# Altium schematic symbol library CR-10 Motherboard.SCHLIB: 23 symbols
Pins are listed as number, name and electrical type; pins without a type are passive.

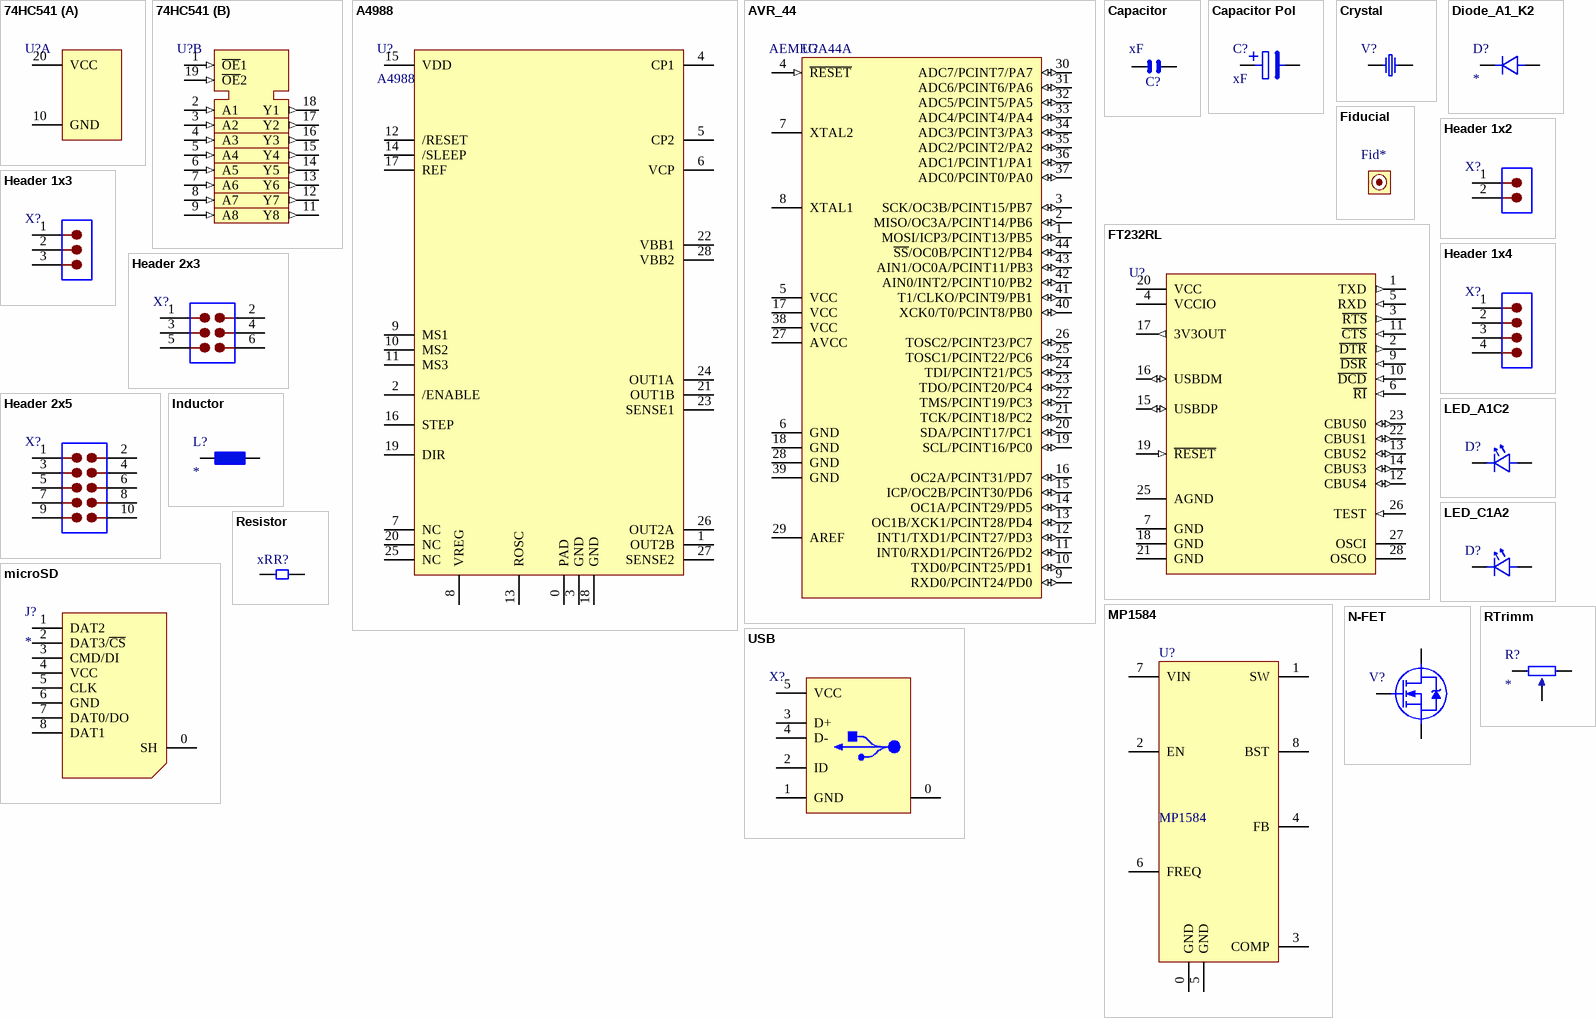
[diagram p0: symbols 74HC541 to USB]

## 74HC541
designator U?, comment HC541  (value not drawn)
74HC541 - Octal buffer/line driver
footprint SSOP-20
part A pins: 10 GND (power), 20 VCC (power)
part B pins: 1 ~{OE}1 (in), 2 A1 (in), 3 A2 (in), 4 A3 (in), 5 A4 (in), 6 A5 (in), 7 A6 (in), 8 A7 (in), 9 A8 (in), 11 Y8 (out), 12 Y7 (out), 13 Y6 (out), 14 Y5 (out), 15 Y4 (out), 16 Y3 (out), 17 Y2 (out), 18 Y1 (out), 19 ~{OE}2 (in)

## A4988
designator U?
footprint QFP28
pins: 0 PAD, 1 OUT2B, 2 /ENABLE, 3 GND, 4 CP1, 5 CP2, 6 VCP, 7 NC, 8 VREG, 9 MS1, 10 MS2, 11 MS3, 12 /RESET, 13 ROSC, 14 /SLEEP, 15 VDD, 16 STEP, 17 REF, 18 GND, 19 DIR, 20 NC, 21 OUT1B, 22 VBB1, 23 SENSE1, 24 OUT1A, 25 NC, 26 OUT2A, 27 SENSE2, 28 VBB2

## AVR_44
designator U?, comment AEMEGA44A
AVR, 128k FLASH, TQFP44; Part Number: ATmega1284P-AU; PackageDescription: TQFP44
footprint QFP-44
pins: 1 MOSI/ICP3/PCINT13/PB5 (io), 2 MISO/OC3A/PCINT14/PB6 (io), 3 SCK/OC3B/PCINT15/PB7 (io), 4 ~{RESET} (in), 5 VCC (power), 6 GND (power), 7 XTAL2, 8 XTAL1, 9 RXD0/PCINT24/PD0 (io), 10 TXD0/PCINT25/PD1 (io), 11 INT0/RXD1/PCINT26/PD2 (io), 12 INT1/TXD1/PCINT27/PD3 (io), 13 OC1B/XCK1/PCINT28/PD4 (io), 14 OC1A/PCINT29/PD5 (io), 15 ICP/OC2B/PCINT30/PD6 (io), 16 OC2A/PCINT31/PD7 (io), 17 VCC (power), 18 GND (power), 19 SCL/PCINT16/PC0 (io), 20 SDA/PCINT17/PC1 (io), 21 TCK/PCINT18/PC2 (io), 22 TMS/PCINT19/PC3 (io), 23 TDO/PCINT20/PC4 (io), 24 TDI/PCINT21/PC5 (io), 25 TOSC1/PCINT22/PC6 (io), 26 TOSC2/PCINT23/PC7 (io), 27 AVCC (power), 28 GND (power), 29 AREF, 30 ADC7/PCINT7/PA7 (io), 31 ADC6/PCINT6/PA6 (io), 32 ADC5/PCINT5/PA5 (io), 33 ADC4/PCINT4/PA4 (io), 34 ADC3/PCINT3/PA3 (io), 35 ADC2/PCINT2/PA2 (io), 36 ADC1/PCINT1/PA1 (io), 37 ADC0/PCINT0/PA0 (io), 38 VCC (power), 39 GND (power), 40 XCK0/T0/PCINT8/PB0 (io), 41 T1/CLKO/PCINT9/PB1 (io), 42 AIN0/INT2/PCINT10/PB2 (io), 43 AIN1/OC0A/PCINT11/PB3 (io), 44 ~{SS}/OC0B/PCINT12/PB4 (io)

## Capacitor
designator C?, comment xF
Chip Capacitor
footprint 0805
footprint 0603
footprint C0603
pins: 1, 2

## Capacitor Pol
designator C?, comment xF
Capacitor Polarized
footprint CAP-100
footprint RVT4X5.5 (22uF  35V)
pins: 1, 2
1 alternate drawing of the same symbol

## Crystal
designator V?  (value not drawn)
footprint CRY
pins: 1, 2

## Diode_A1_K2
designator D?
Diode
footprint D-SMA
pins: 1, 2

## Fiducial
designator Fid*  (value not drawn)  (no BOM)
Fiducial
footprint Fiducial-A

## FT232RL
designator U?  (value not drawn)
FTDI USB UART I.C.
footprint PL2303
pins: 1 TXD (out), 2 ~{DTR} (out), 3 ~{RTS} (out), 4 VCCIO (power), 5 RXD (in), 6 ~{RI} (in), 7 GND (power), 9 ~{DSR} (in), 10 ~{DCD} (in), 11 ~{CTS} (in), 12 CBUS4 (io), 13 CBUS2 (io), 14 CBUS3 (io), 15 USBDP (io), 16 USBDM (io), 17 3V3OUT (out), 18 GND (power), 19 ~{RESET} (in), 20 VCC (power), 21 GND (power), 22 CBUS1 (io), 23 CBUS0 (io), 25 AGND (power), 26 TEST (in), 27 OSCI (power), 28 OSCO (power)

## Header 1x2
designator X?
Header 1x2
footprint P2
footprint MOT-2
pins: 1, 2

## Header 1x3
designator X?
Header 1x3
footprint XH-3A
pins: 1, 2, 3

## Header 1x4
designator X?
Header 1x4
footprint P4
pins: 1, 2, 3, 4

## Header 2x3
designator X?
Header 2x3
footprint H6
pins: 1, 2, 3, 4, 5, 6
1 alternate drawing of the same symbol

## Header 2x5
designator X?
Header 2x5
footprint SOP10
pins: 1, 2, 3, 4, 5, 6, 7, 8, 9, 10
1 alternate drawing of the same symbol

## Inductor
designator L?
Inductor
footprint DO3316P
pins: 1, 2
1 alternate drawing of the same symbol

## LED_A1C2
designator D?, comment LED  (value not drawn)
footprint 0603
pins: 1, 2

## LED_C1A2
designator D?, comment LED  (value not drawn)
footprint 0603
pins: 1, 2

## microSD
designator J?
microSD
footprint TF
pins: 0 SH, 1 DAT2, 2 DAT3/~{CS}, 3 CMD/DI, 4 VCC, 5 CLK, 6 GND, 7 DAT0/DO, 8 DAT1

## MP1584
designator U?
footprint SOIC8E
pins: 0 GND, 1 SW, 2 EN, 3 COMP, 4 FB, 5 GND, 6 FREQ, 7 VIN, 8 BST

## N-FET
designator V?  (value not drawn)
N-FET
footprint TO-252
pins: 1 G, 2 D, 3 S

## Resistor
designator R?, comment xR
Chip Resistor
footprint 0603
footprint R10
footprint R0603
footprint MF-MSMF050
footprint R100
pins: 1, 2
1 alternate drawing of the same symbol

## RTrimm
designator R?
RTrimm
footprint RP
pins: 1, 2, 3

## USB
designator X?  (value not drawn)
USB
footprint USB
pins: 0 SH, 1 GND, 2 ID, 3 D+, 4 D-, 5 VCC